# Altium footprint library PcbLib1.PcbLib: 42 footprints (part 2 of 3)
Each footprint in its own frame and in the unit in brackets; x right, y up, seen from the top. Pads: shape width x height; smd on the part's side, far side on the other; paste and mask are expansions set on the pad; w line width, h text height; cw(c..) or ccw(c..) is an arc to the next point about the centre after c.
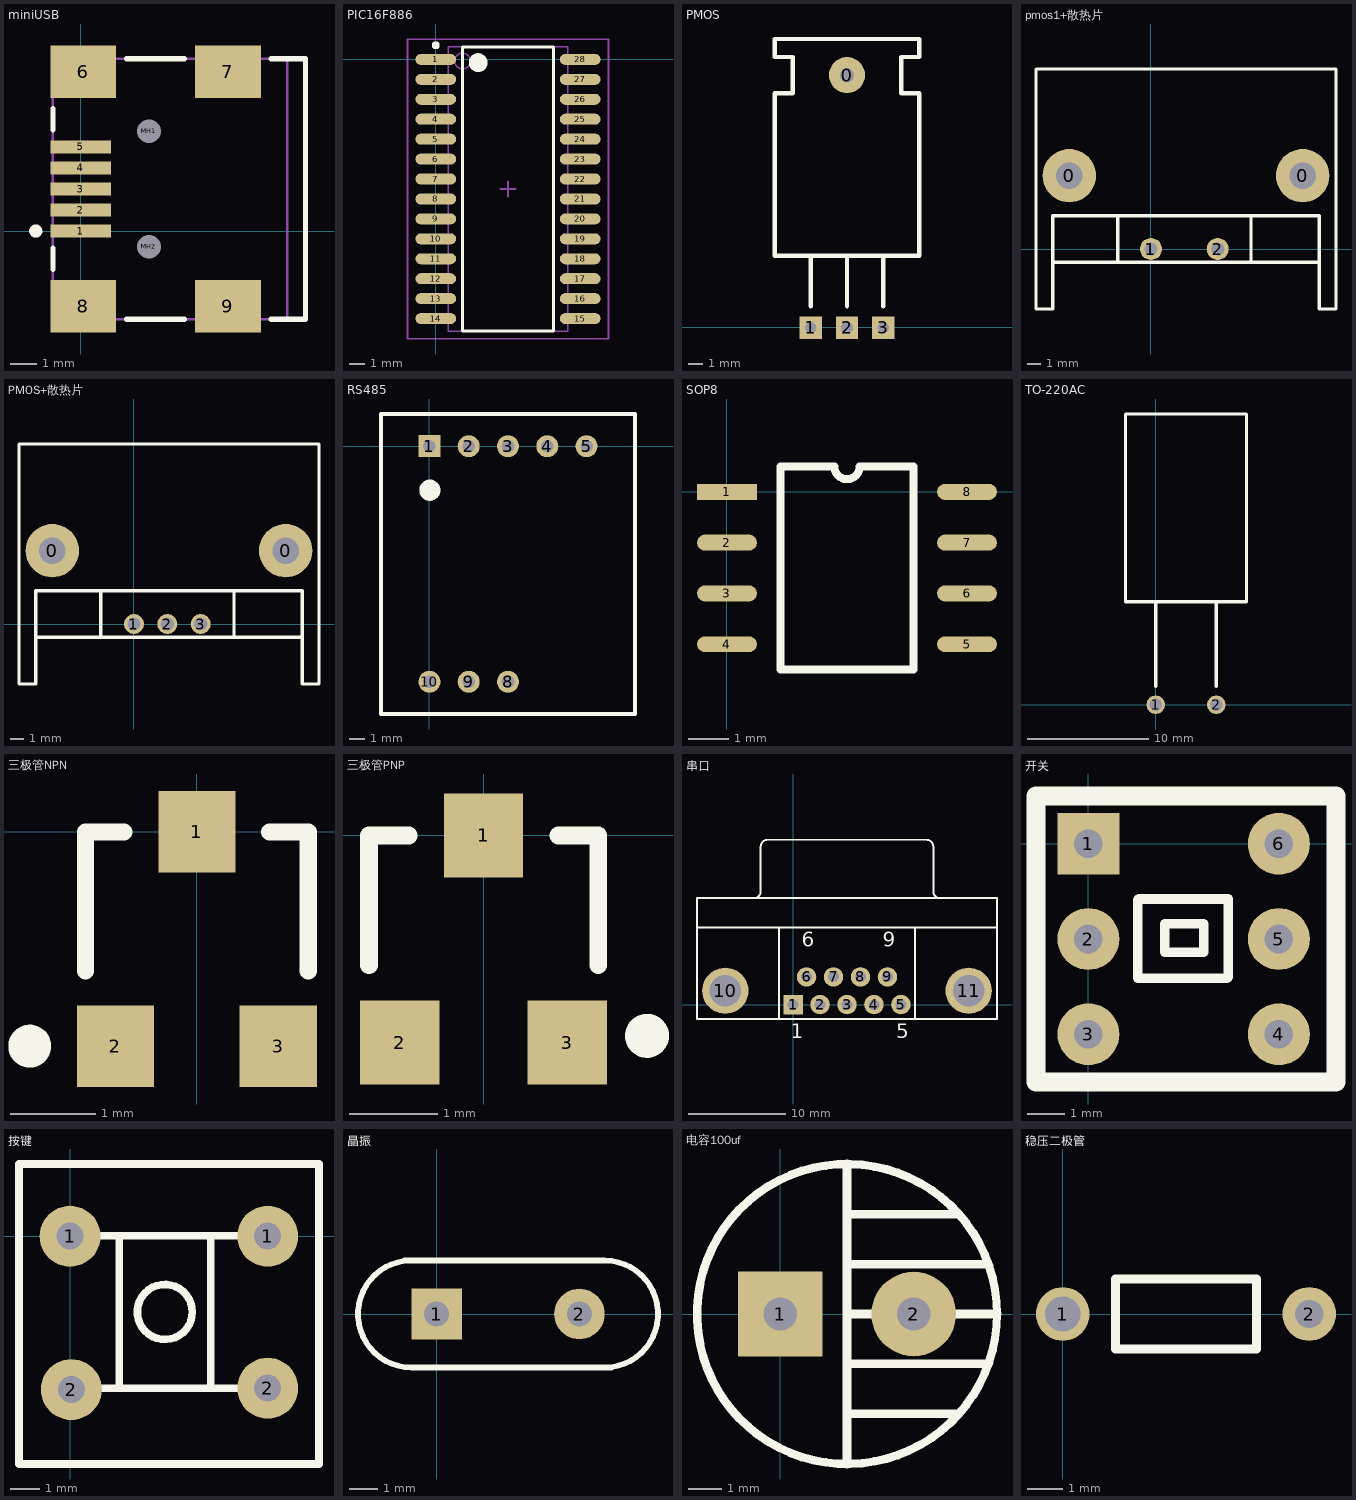
[diagram p1: the footprints below, top view; thin cyan lines are the x and y axes]

## miniUSB [mm]
pads (11):
  rect 2.3x0.5 smd: 1(0,0) 2(0,0.8) 3(0,1.6) 4(0,2.4) 5(0,3.2)
  rect 2.5x2 smd: 6(0.1,6.05) 7(5.6,6.05) 8(0.1,-2.85) 9(5.6,-2.85)
  round 0.6 hole 0.9 unplated: MH1(2.6,3.8) MH2(2.6,-0.6)
Top Overlay:
  circle w0.25: c-1.7,0 r0.125
  lines w0.2: -1.05,-1.45 -1.05,-0.65 ; -1.05,3.85 -1.05,4.65 ; 1.75,-3.35 3.95,-3.35 ; 1.75,6.55 3.95,6.55 ; 7.25,-3.35 8.55,-3.35 8.55,6.55 7.25,6.55
Mechanical 1:
  lines w0.1: 7.85,-3.35 7.85,6.55
  text "PCB Edge" at 8.282,-2.436 h0.25
Mechanical 13:
  lines w0.1: -1.05,-3.35 8.55,-3.35 8.55,6.55 -1.05,6.55 -1.05,-3.35
3D body: height 3.9, standoff 0, extent -1.05,-3.35 8.55,6.55

## PIC16F886 [mm]
pads (28):
  oval 2.6x0.7 smd: 1(0,0) 2(0,-1.27) 3(0,-2.54) 4(0,-3.81) 5(0,-5.08) 6(0,-6.35) 7(0,-7.62) 8(0,-8.89) 9(0,-10.16) 10(0,-11.43) 11(0,-12.7) 12(0,-13.97) 13(0,-15.24) 14(0,-16.51) 15(9.2,-16.51) 16(9.2,-15.24) 17(9.2,-13.97) 18(9.2,-12.7) 19(9.2,-11.43) 20(9.2,-10.16) 21(9.2,-8.89) 22(9.2,-7.62) 23(9.2,-6.35) 24(9.2,-5.08) 25(9.2,-3.81) 26(9.2,-2.54) 27(9.2,-1.27) 28(9.2,0)
Top Overlay:
  circle w0.25: c0,0.9 r0.125
  circle w0.6: c2.7,-0.205 r0.3
  lines w0.2: 1.7,-17.305 1.7,0.795 7.5,0.795 7.5,-17.305 1.7,-17.305
Mechanical 13:
  circle w0.1: c1.7,-0.1 r0.5
  lines w0.1: 0.8,-17.31 0.8,0.8 8.4,0.8 8.4,-17.31 0.8,-17.31
Mechanical 15:
  lines w0.1: 4.1,-8.255 5.1,-8.255 ; 4.6,-8.755 4.6,-7.755 ; -1.8,-17.805 -1.8,1.295 11,1.295 11,-17.805 -1.8,-17.805
3D body: height 2.65, standoff 0, extent 0.8,-17.31 8.4,0.8

## PMOS [mil]
pads (4):
  round 100 hole 40: 0(911.02,699.02)
  rect 62x62 hole 32: 1(811.02,-0.98) 2(911.02,-0.98) 3(1011.02,-0.98)
Top Overlay:
  lines w12: 811.02,59.02 811.02,199.02 ; 911.02,59.02 911.02,199.02 ; 1011.02,59.02 1011.02,199.02 ; 711.02,199.02 1111.02,199.02 1111.02,649.02 1061.02,649.02 1061.02,749.02 1111.02,749.02 1111.02,799.02 711.02,799.02 711.02,749.02 761.02,749.02 761.02,649.02 711.02,649.02 711.02,199.02

## pmos1+散热片 [mm]
pads (4):
  round 4 hole 2: 0(-6.125,5.5) 0(11.375,5.5)
  round 1.65 hole 1: 1(0,0) 2(5,0)
Top Overlay:
  lines w0.254: -7.375,-1 12.625,-1 ; -2.525,2.5 -2.5,2.5 -2.5,-1 ; 7.5,2.5 7.5,-0.975 7.525,-1 ; -8.625,-4.5 -8.625,13.5 13.875,13.5 13.875,-4.5 12.625,-4.5 12.625,2.5 -7.375,2.5 -7.375,-4.5 -8.625,-4.5

## PMOS+散热片 [mm]
pads (5):
  round 4 hole 2: 0(-6.125,5.5) 0(11.375,5.5)
  round 1.5 hole 1: 1(0,0) 2(2.5,0) 3(5,0)
Top Overlay:
  lines w0.254: -7.375,-1 12.625,-1 ; -2.525,2.5 -2.5,2.5 -2.5,-1 ; 7.5,2.5 7.5,-0.975 7.525,-1 ; -8.625,-4.5 -8.625,13.5 13.875,13.5 13.875,-4.5 12.625,-4.5 12.625,2.5 -7.375,2.5 -7.375,-4.5 -8.625,-4.5

## RS485 [mil]
pads (8):
  rect 56x56 hole 32: 1(0,0)
  round 56 hole 32: 2(100,0) 3(200,0) 4(300,0) 5(400,0) 8(200,-600) 9(100,-600) 10(0,-600)
Top Overlay:
  circle w30: c1,-112 r12
  lines w10: -123,-682 -123,82 523,82 523,-682 -123,-682

## SOP8 [mm]
pads (8):
  rect 1.5x0.4 smd: 1(0,0)
  oval 1.5x0.4 smd: 2(0,-1.27) 3(0,-2.54) 4(0,-3.81) 5(6,-3.81) 6(6,-2.54) 7(6,-1.27) 8(6,0)
Top Overlay:
  lines w0.2: 1.335,-4.445 4.665,-4.445 4.665,0.635 3.317,0.635 cw(c3,0.635) 2.682,0.635 1.335,0.635 1.335,-4.445

## TO-220AC [mil]
pads (2):
  round 60 hole 39.37: 1(0,0) 2(196.85,0)
Top Overlay:
  lines w10: 0,59.06 0,334.65 ; 196.85,59.06 196.85,334.65 ; -98.43,334.65 295.28,334.65 295.28,944.88 -98.43,944.88 -98.43,334.65

## 三极管NPN [mm]
pads (3):
  rect 0.9x0.95 smd: 1(0,0) 2(-0.95,-2.5) 3(0.95,-2.5)
Top Overlay:
  circle w0.25: c-1.95,-2.5 r0.125
  lines w0.2: -1.3,-1.625 -1.3,0 -0.85,0 ; 0.85,0 1.3,0 1.3,-1.625

## 三极管PNP [mm]
pads (3):
  rect 0.9x0.95 smd: 1(0,0) 2(-0.95,-2.35) 3(0.95,-2.35)
Top Overlay:
  circle w0.25: c1.855,-2.274 r0.125
  lines w0.2: -1.3,-1.475 -1.3,0 -0.85,0 ; 0.85,0 1.3,0 1.3,-1.475

## 串口 [mm]
pads (11):
  rect 2x2 hole 1.09: 1(0,0)
  round 2 hole 1.09: 2(2.77,0) 3(5.54,0) 4(8.31,0) 5(11.08,0) 6(1.385,2.84) 7(4.155,2.84) 8(6.925,2.84) 9(9.695,2.84)
  round 4.76 hole 3.26: 10(-6.955,1.42) 11(18.035,1.42)
Top Overlay:
  lines w0.2: -9.86,7.92 20.94,7.92 ; -4.02,10.925 ccw(c-4.02,11.62) -3.325,11.62 -3.325,16.22 ; -3.32,16.225 cw(c-2.625,16.225) -2.625,16.92 13.705,16.92 cw(c13.705,16.225) 14.4,16.225 ; -1.46,-1.48 -1.46,7.92 ; 12.54,-1.48 12.54,7.92 ; 14.405,16.22 14.405,11.62 ccw(c15.1,11.62) 15.1,10.925 ; -9.86,-1.48 -9.86,10.92 20.94,10.92 20.94,-1.48 -9.86,-1.48
  text "1" at -0.25,-3.455 h1.5
  text "5" at 10.58,-3.455 h1.5
  text "9" at 9.195,5.945 h1.5
  text "6" at 0.885,5.945 h1.5

## 开关 [mil]
pads (6):
  rect 65x65 hole 30: 1(0,0)
  round 65 hole 30: 2(0,-100) 3(0,-200) 4(200,-200) 5(200,-100) 6(200,0)
Top Overlay:
  lines w10: 52,-59 52,-141 146,-141 147,-140 147,-58 ; 53,-58 147,-58 ; 146,-59 147,-58 ; 80,-114 121,-114 121,-84 80,-84 80,-114
  lines w20: 230,-250 260,-250 260,50 245,50 -55,50 -55,-250 245,-250

## 按键 [mil]
pads (4):
  round 80 hole 35.43: 1(0,0) 1(259.47,0) 2(1.76,-201.22) 2(259.47,-199.45)
Top Overlay:
  circle w10: c124.43,-99.41 r36.06
  lines w10: 19.43,-199.41 234.43,-199.41 ; 19.43,0.59 240.57,0.59 241.03,1.05 ; 64.43,-199.41 64.43,0.59 ; 184.43,-199.41 184.43,0.59 ; -66.97,-298.95 326.73,-298.95 326.73,94.76 -66.97,94.76 -66.97,-298.95

## 晶振 [mm]
pads (2):
  rect 1.8x1.8 hole 0.9: 1(0,0)
  round 1.8 hole 0.9: 2(5.08,0)
Top Overlay:
  lines w0.203: -1.143,1.905 5.969,1.905 cw(c5.969,0) 5.969,-1.905 ; -0.889,1.905 ccw(c-0.889,0) -0.889,-1.905 6.223,-1.905

## 电容100uf [mm]
pads (2):
  rect 2.54x2.54 hole 1: 1(0,0)
  round 2.54 hole 1: 2(4,0)
Top Overlay:
  circle w0.254: c2,0 r4.5
  lines w0.255: 2,-4.5 2,4.5 ; 2,-3 5.25,-3 ; 2,-1.5 6.25,-1.5 ; 2,0 6.5,0 ; 2,1.5 6.2,1.5 ; 2,3 5.25,3

## 稳压二极管 [mil]
pads (2):
  round 60 hole 39.37: 1(0,0)
  round 60 hole 31.5: 2(275.59,0)
Top Overlay:
  lines w10: 59.06,-39.37 59.06,39.37 216.54,39.37 216.54,-39.37 59.06,-39.37